# EAGLE library part OPA234P (library burr-brown)
Low Power, Precision Single-Supply Operational Amplifiers
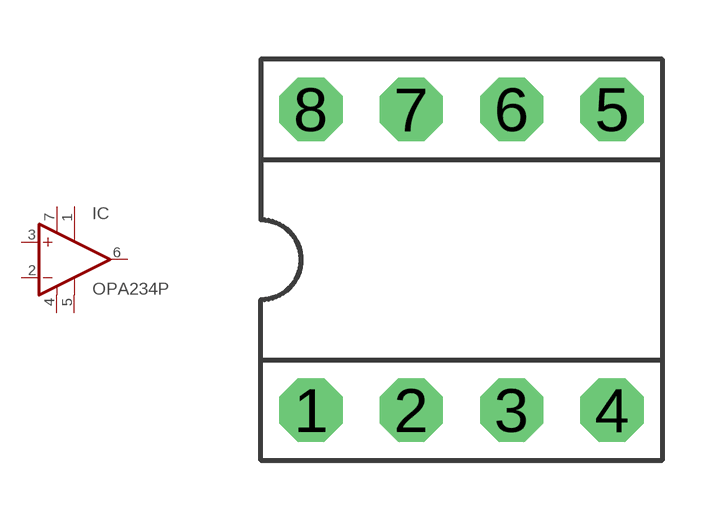
[diagram p123: symbol with the pads of DIP-08; footprint DIP-08]

Designator prefix IC

## OPA234P  [DIP-08]
1  TRIM1  pas
2  -IN  in
3  +IN  in
4  V-  pwr
5  TRIM2  pas
6  OUT  out
7  V+  pwr

## Footprint DIP-08 (pad centres in mm)
drill 0.813 pad 1.6 octagon: 1 -3.81,-3.81; 2 -1.27,-3.81; 3 1.27,-3.81; 4 3.81,-3.81; 5 3.81,3.81; 6 1.27,3.81; 7 -1.27,3.81; 8 -3.81,3.81